# EAGLE library part MICROMOD_FUNCTION (library SparkFun-MicroMod)
MicroMod Connector Description: A card edge connector and mating PCB connector to allow various MicroMod Processor Boards to be coupled with various carrier boards of different capabilities. Based on the M.2 standard.
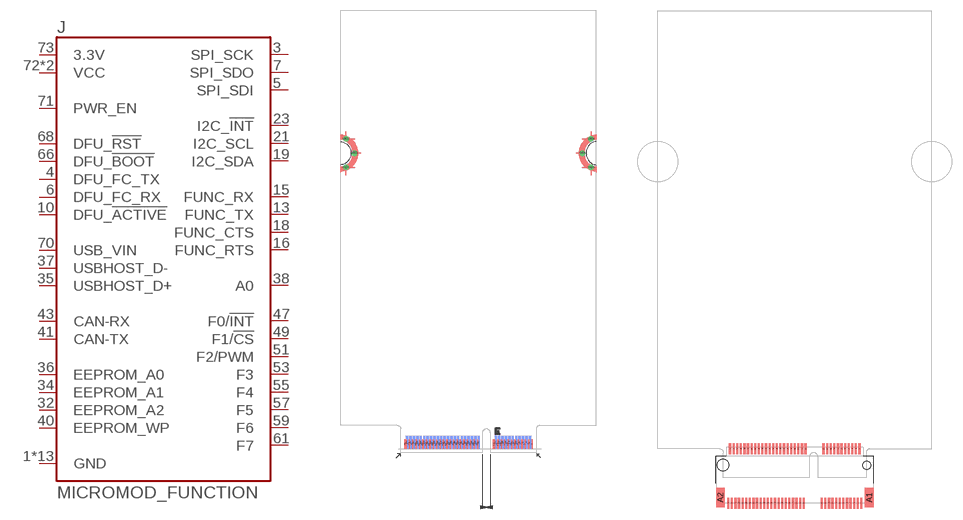
[diagram p1: symbol with the pads of M.2-CARD-E-22_FUNCTION_STANDARD; footprints M.2-CARD-E-22_FUNCTION_STANDARD, M.2-CONNECTOR-E-FUNCTION-STANDARD]

Designator prefix J

## MICROMOD_FUNCTION_STANDARD  [M.2-CARD-E-22_FUNCTION_STANDARD]
1  GND
2  GND
3  SPI_SCK
4  DFU_FC_TX
5  SPI_SDI
6  DFU_FC_RX
7  SPI_SDO
8  GND
10  DFU_!ACTIVE!
13  FUNC_TX
15  FUNC_RX
16  FUNC_RTS
18  FUNC_CTS
19  I2C_SDA
21  I2C_SCL
23  I2C_!INT!
32  EEPROM_A2
33  GND
34  EEPROM_A1
35  USBHOST_D+
36  EEPROM_A0
37  USBHOST_D-
38  A0
39  GND
40  EEPROM_WP
41  CAN-TX
43  CAN-RX
45  GND
47  F0/!INT!
49  F1/!CS!
51  F2/PWM
53  F3
55  F4
57  F5
59  F6
61  F7
66  DFU_!BOOT!
68  DFU_!RST!
70  USB_VIN
71  PWR_EN
72  VCC
73  3.3V
74  VCC
75  GND
GND1  GND
GND2  GND
GND3  GND
GND4  GND
GND5  GND
GND6  GND

## MICROMOD_FUNCTION_MAIN (PROD_ID: CONN-14877)  [M.2-CONNECTOR-E-FUNCTION-STANDARD]
1  GND
2  GND
3  SPI_SCK
4  DFU_FC_TX
5  SPI_SDI
6  DFU_FC_RX
7  SPI_SDO
8  GND
10  DFU_!ACTIVE!
13  FUNC_TX
15  FUNC_RX
16  FUNC_RTS
18  FUNC_CTS
19  I2C_SDA
21  I2C_SCL
23  I2C_!INT!
32  EEPROM_A2
33  GND
34  EEPROM_A1
35  USBHOST_D+
36  EEPROM_A0
37  USBHOST_D-
38  A0
39  GND
40  EEPROM_WP
41  CAN-TX
43  CAN-RX
45  GND
47  F0/!INT!
49  F1/!CS!
51  F2/PWM
53  F3
55  F4
57  F5
59  F6
61  F7
66  DFU_!BOOT!
68  DFU_!RST!
70  USB_VIN
71  PWR_EN
72  VCC
73  3.3V
74  VCC
75  GND

## Footprint M.2-CARD-E-22_FUNCTION_STANDARD (pad centres in mm)
smd 0.35 x 1.45: 1 9.25,1.275; 3 8.75,1.275; 5 8.25,1.275; 7 7.75,1.275; 9 7.25,1.275; 11 6.75,1.275; 13 6.25,1.275; 15 5.75,1.275; 17 5.25,1.275; 19 4.75,1.275; 21 4.25,1.275; 23 3.75,1.275; 33 1.25,1.275; 35 0.75,1.275; 37 0.25,1.275; 39 -0.25,1.275; 41 -0.75,1.275; 43 -1.25,1.275; 45 -1.75,1.275; 47 -2.25,1.275; 49 -2.75,1.275; 51 -3.25,1.275; 53 -3.75,1.275; 55 -4.25,1.275; 57 -4.75,1.275; 59 -5.25,1.275; 61 -5.75,1.275; 63 -6.25,1.275; 65 -6.75,1.275; 67 -7.25,1.275; 69 -7.75,1.275; 71 -8.25,1.275; 73 -8.75,1.275; 75 -9.25,1.275
smd 0.35 x 1.95 bottom: 2 9,1.525; 4 8.5,1.525; 6 8,1.525; 8 7.5,1.525; 10 7,1.525; 12 6.5,1.525; 14 6,1.525; 16 5.5,1.525; 18 5,1.525; 20 4.5,1.525; 22 4,1.525; 32 1.5,1.525; 34 1,1.525; 36 0.5,1.525; 38 0,1.525; 40 -0.5,1.525; 42 -1,1.525; 44 -1.5,1.525; 46 -2,1.525; 48 -2.5,1.525; 50 -3,1.525; 52 -3.5,1.525; 54 -4,1.525; 56 -4.5,1.525; 58 -5,1.525; 60 -5.5,1.525; 62 -6,1.525; 64 -6.5,1.525; 66 -7,1.525; 68 -7.5,1.525; 70 -8,1.525; 72 -8.5,1.525; 74 -9,1.525
drill 0.305 pad 0.61: GND1 -18,41.9; GND2 -16.7,44; GND3 -18,46.1; GND4 18,41.9; GND5 16.7,44; GND6 18,46.1

## Footprint M.2-CONNECTOR-E-FUNCTION-STANDARD (pad centres in mm)
smd 0.3 x 1.55: 1 9.25,-5.275; 2 9,2.275; 3 8.75,-5.275; 4 8.5,2.275; 5 8.25,-5.275; 6 8,2.275; 7 7.75,-5.275; 8 7.5,2.275; 9 7.25,-5.275; 10 7,2.275; 11 6.75,-5.275; 12 6.5,2.275; 13 6.25,-5.275; 14 6,2.275; 15 5.75,-5.275; 16 5.5,2.275; 17 5.25,-5.275; 18 5,2.275; 19 4.75,-5.275; 20 4.5,2.275; 21 4.25,-5.275; 22 4,2.275; 23 3.75,-5.275; 32 1.5,2.275; 33 1.25,-5.275; 34 1,2.275; 35 0.75,-5.275; 36 0.5,2.275; 37 0.25,-5.275; 38 0,2.275; 39 -0.25,-5.275; 40 -0.5,2.275; 41 -0.75,-5.275; 42 -1,2.275; 43 -1.25,-5.275; 44 -1.5,2.275; 45 -1.75,-5.275; 46 -2,2.275; 47 -2.25,-5.275; 48 -2.5,2.275; 49 -2.75,-5.275; 50 -3,2.275; 51 -3.25,-5.275; 52 -3.5,2.275; 53 -3.75,-5.275; 54 -4,2.275; 55 -4.25,-5.275; 56 -4.5,2.275; 57 -4.75,-5.275; 58 -5,2.275; 59 -5.25,-5.275; 60 -5.5,2.275; 61 -5.75,-5.275; 62 -6,2.275; 63 -6.25,-5.275; 64 -6.5,2.275; 65 -6.75,-5.275; 66 -7,2.275; 67 -7.25,-5.275; 68 -7.5,2.275; 69 -7.75,-5.275; 70 -8,2.275; 71 -8.25,-5.275; 72 -8.5,2.275; 73 -8.75,-5.275; 74 -9,2.275; 75 -9.25,-5.275
smd 1.2 x 2.75: A1 10.35,-4.5; A2 -10.35,-4.5
hole 1.1 at 10,0
hole 1.6 at -10,0